# Altium schematic symbol library Switch_C&K_JS202011CQN_eec.SchLib: 1 symbol
Pins are listed as number, name and electrical type; pins without a type are passive.

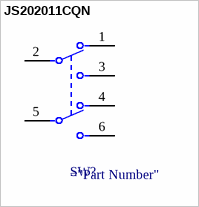
[diagram p0: symbol JS202011CQN]

## JS202011CQN
designator SW?  (value not drawn)
footprint C&K_JS202011CQN_0
pins: 1, 2, 3, 4, 5, 6